# EAGLE library part LTC2928CUHF#PBF (library circuit_tree)
IC
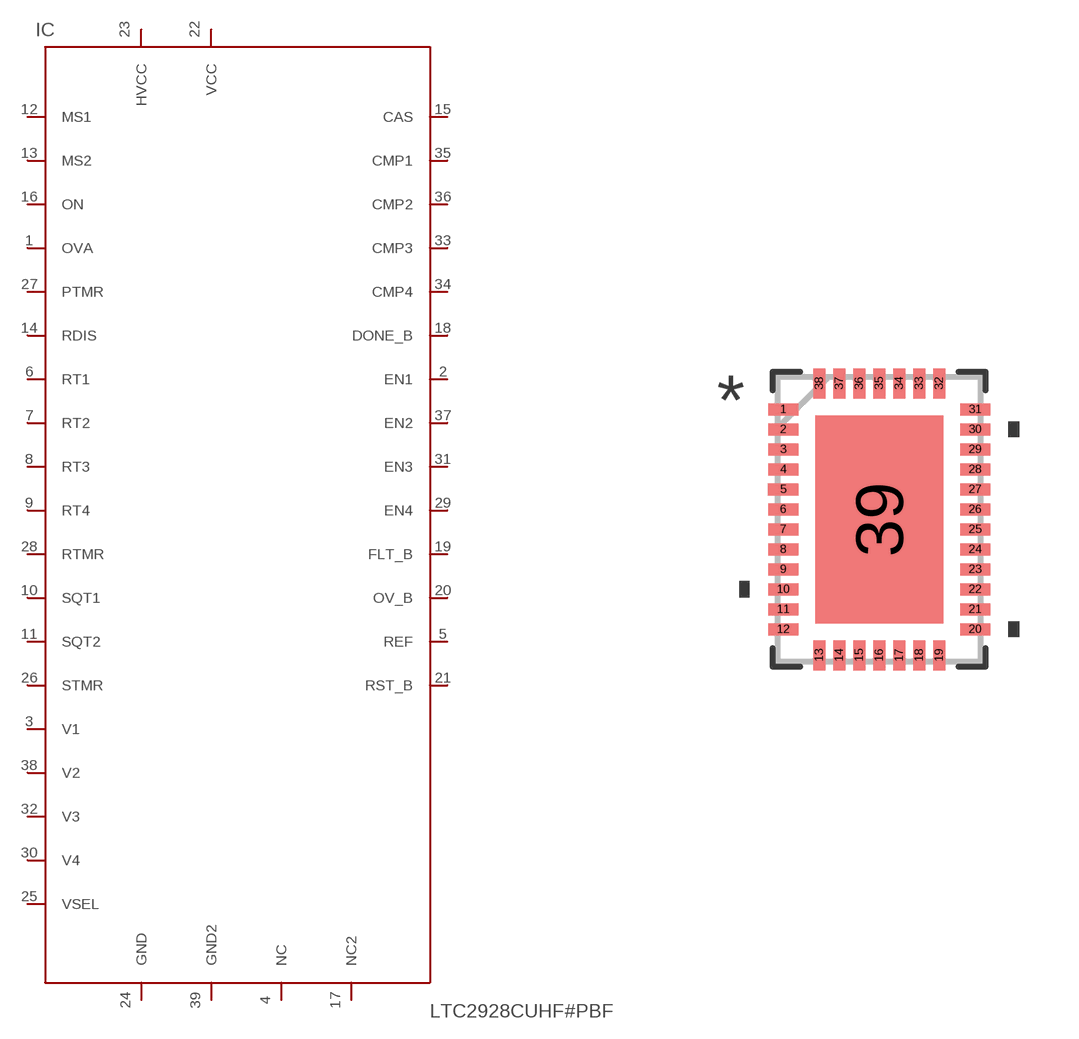
[diagram p2: symbol with the pads of QFN-38_UHF; footprint QFN-38_UHF]

Designator prefix IC

## LTC2928CUHF#PBF  [QFN-38_UHF]
1  OVA  pas
2  EN1  pas
3  V1  pas
4  NC  pas
5  REF  pas
6  RT1  pas
7  RT2  pas
8  RT3  pas
9  RT4  pas
10  SQT1  pas
11  SQT2  pas
12  MS1  pas
13  MS2  pas
14  RDIS  pas
15  CAS  pas
16  ON  pas
17  NC2  pas
18  DONE_B  pas
19  FLT_B  pas
20  OV_B  pas
21  RST_B  pas
22  VCC  pas
23  HVCC  pas
24  GND  pas
25  VSEL  pas
26  STMR  pas
27  PTMR  pas
28  RTMR  pas
29  EN4  pas
30  V4  pas
31  EN3  pas
32  V3  pas
33  CMP3  pas
34  CMP4  pas
35  CMP1  pas
36  CMP2  pas
37  EN2  pas
38  V2  pas
39  GND2  pas

## Footprint QFN-38_UHF (pad centres in mm)
smd 0.75 x 0.3: 1 -2.4,2.75; 2 -2.4,2.25; 3 -2.4,1.75; 4 -2.4,1.25; 6 -2.4,0.25; 7 -2.4,-0.25; 8 -2.4,-0.75; 9 -2.4,-1.25; 10 -2.4,-1.75; 11 -2.4,-2.25; 12 -2.4,-2.75; 20 2.4,-2.75; 21 2.4,-2.25; 22 2.4,-1.75; 23 2.4,-1.25; 24 2.4,-0.75; 25 2.4,-0.25; 26 2.4,0.25; 27 2.4,0.75; 28 2.4,1.25; 29 2.4,1.75; 30 2.4,2.25; 31 2.4,2.75
smd 0.758 x 0.3: 5 -2.4,0.75
smd 0.3 x 0.75: 13 -1.5,-3.4; 14 -1,-3.4; 15 -0.5,-3.4; 16 0,-3.4; 17 0.5,-3.4; 18 1,-3.4; 19 1.5,-3.4; 32 1.5,3.4; 33 1,3.4; 34 0.5,3.4; 35 0,3.4; 36 -0.5,3.4; 37 -1,3.4; 38 -1.5,3.4
smd 3.2 x 5.2: 39 0,0